# EAGLE library part 18F4620_18F4620 (library daisy_mp3)
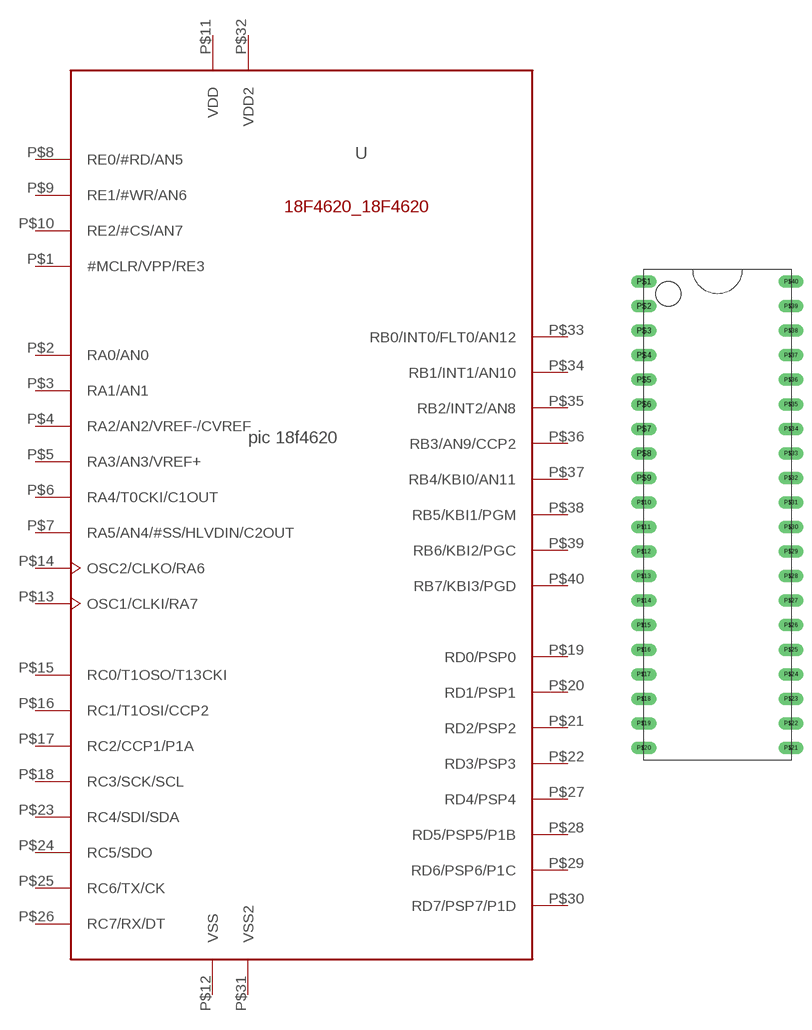
[diagram p0: symbol with the pads of 18F4620_DIP40; footprint 18F4620_DIP40]

Designator prefix -

## 18F4620_18F4620  [18F4620_DIP40]
P$1  #MCLR/VPP/RE3  in
P$2  RA0/AN0
P$3  RA1/AN1
P$4  RA2/AN2/VREF-/CVREF
P$5  RA3/AN3/VREF+
P$6  RA4/T0CKI/C1OUT
P$7  RA5/AN4/#SS/HLVDIN/C2OUT
P$8  RE0/#RD/AN5
P$9  RE1/#WR/AN6
P$10  RE2/#CS/AN7
P$11  VDD  pwr
P$12  VSS  pwr
P$13  OSC1/CLKI/RA7
P$14  OSC2/CLKO/RA6
P$15  RC0/T1OSO/T13CKI
P$16  RC1/T1OSI/CCP2
P$17  RC2/CCP1/P1A
P$18  RC3/SCK/SCL
P$19  RD0/PSP0
P$20  RD1/PSP1
P$21  RD2/PSP2
P$22  RD3/PSP3
P$23  RC4/SDI/SDA
P$24  RC5/SDO
P$25  RC6/TX/CK
P$26  RC7/RX/DT
P$27  RD4/PSP4
P$28  RD5/PSP5/P1B
P$29  RD6/PSP6/P1C
P$30  RD7/PSP7/P1D
P$31  VSS2  pwr
P$32  VDD2  pwr
P$33  RB0/INT0/FLT0/AN12
P$34  RB1/INT1/AN10
P$35  RB2/INT2/AN8
P$36  RB3/AN9/CCP2
P$37  RB4/KBI0/AN11
P$38  RB5/KBI1/PGM
P$39  RB6/KBI2/PGC
P$40  RB7/KBI3/PGD

## Footprint 18F4620_DIP40 (pad centres in mm)
drill 0.8 pad 1.27 long: P$1 -7.62,24.13; P$2 -7.62,21.59; P$3 -7.62,19.05; P$4 -7.62,16.51; P$5 -7.62,13.97; P$6 -7.62,11.43; P$7 -7.62,8.89; P$8 -7.62,6.35; P$9 -7.62,3.81; P$10 -7.62,1.27; P$11 -7.62,-1.27; P$12 -7.62,-3.81; P$13 -7.62,-6.35; P$14 -7.62,-8.89; P$15 -7.62,-11.43; P$16 -7.62,-13.97; P$17 -7.62,-16.51; P$18 -7.62,-19.05; P$19 -7.62,-21.59; P$20 -7.62,-24.13; P$21 7.62,-24.13; P$22 7.62,-21.59; P$23 7.62,-19.05; P$24 7.62,-16.51; P$25 7.62,-13.97; P$26 7.62,-11.43; P$27 7.62,-8.89; P$28 7.62,-6.35; P$29 7.62,-3.81; P$30 7.62,-1.27; P$31 7.62,1.27; P$32 7.62,3.81; P$33 7.62,6.35; P$34 7.62,8.89; P$35 7.62,11.43; P$36 7.62,13.97; P$37 7.62,16.51; P$38 7.62,19.05; P$39 7.62,21.59; P$40 7.62,24.13